# EAGLE library part XF2M20151A (library CONNECTORs)
XF2M20151A FFC / FPC Board Connector, ZIF, 20 Contacts, Plug, 0.5 mm, Surface Mount, Top, Bottom
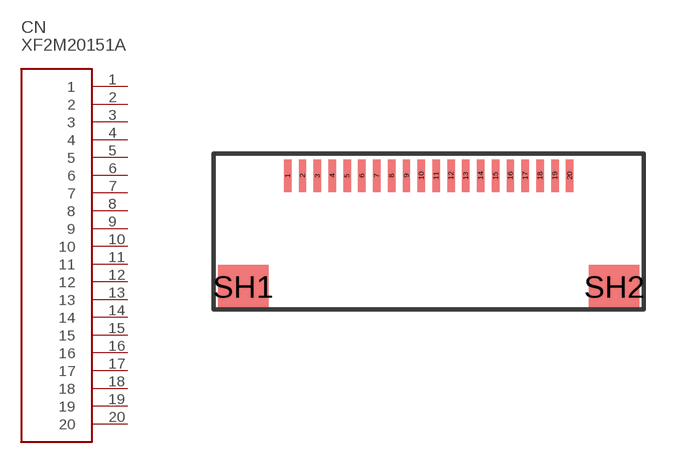
[diagram p27: symbol with the pads of XF2M20151A; footprint XF2M20151A]

Designator prefix CN

## XF2M20151A (FARNELL: 1112558; PRICE_PER: 0.751; VALUE: 20PIN FPC)  [XF2M20151A]
1  1
2  2
3  3
4  4
5  5
6  6
7  7
8  8
9  9
10  10
11  11
12  12
13  13
14  14
15  15
16  16
17  17
18  18
19  19
20  20

## Footprint XF2M20151A (pad centres in mm)
smd 0.25 x 1.1: 1 -4.75,2; 2 -4.25,2; 3 -3.75,2; 4 -3.25,2; 5 -2.75,2; 6 -2.25,2; 7 -1.75,2; 8 -1.25,2; 9 -0.75,2; 10 -0.25,2; 11 0.25,2; 12 0.75,2; 13 1.25,2; 14 1.75,2; 15 2.25,2; 16 2.75,2; 17 3.25,2; 18 3.75,2; 19 4.25,2; 20 4.75,2
smd 1.7 x 1.5: SH1 -6.25,-1.75; SH2 6.25,-1.75